# Altium footprint library SWT-34.PcbLib: 1 footprints
Each footprint in its own frame and in the unit in brackets; x right, y up, seen from the top. Pads: shape width x height; smd on the part's side, far side on the other; paste and mask are expansions set on the pad; w line width, h text height; cw(c..) or ccw(c..) is an arc to the next point about the centre after c.
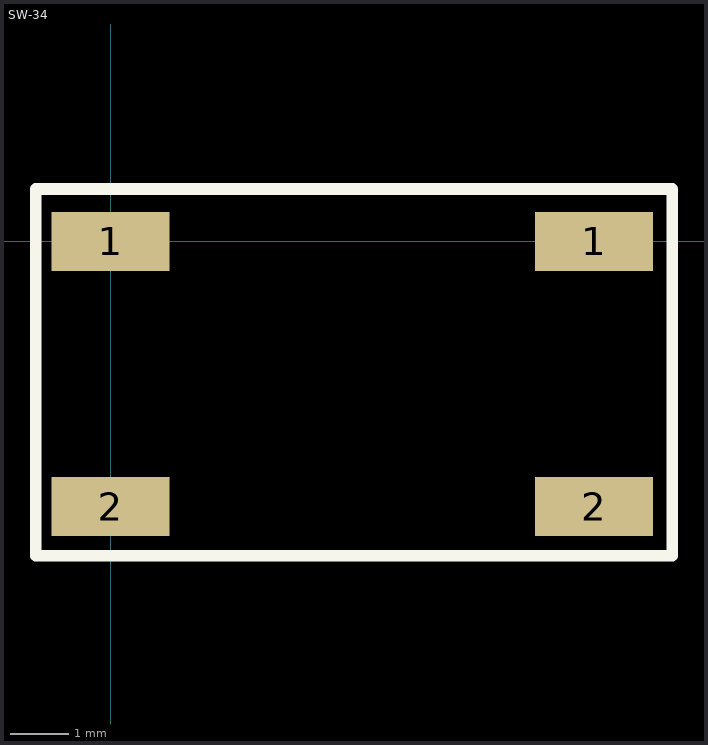
[diagram p0: the footprint, top view; thin cyan lines are the x and y axes]

## SW-34 [mm]
pads (4):
  rect 2x1 smd: 1(0,0) 1(8.2,0) 2(0,-4.5) 2(8.2,-4.5)
Top Overlay:
  lines w0.2: 2.032,0.889 9.525,0.889 9.525,-5.334 -1.27,-5.334 -1.27,0.889 2.594,0.889
3D body "User Library-SWT-34.step": height 7.3, standoff -0.05, extent -1.113,-5.159 9.241,0.841